# Altium footprint library PCB_LIB.PcbLib: 19 footprints (part 1 of 2)
Each footprint in its own frame and in the unit in brackets; x right, y up, seen from the top. Pads: shape width x height; smd on the part's side, far side on the other; paste and mask are expansions set on the pad; w line width, h text height; cw(c..) or ccw(c..) is an arc to the next point about the centre after c.
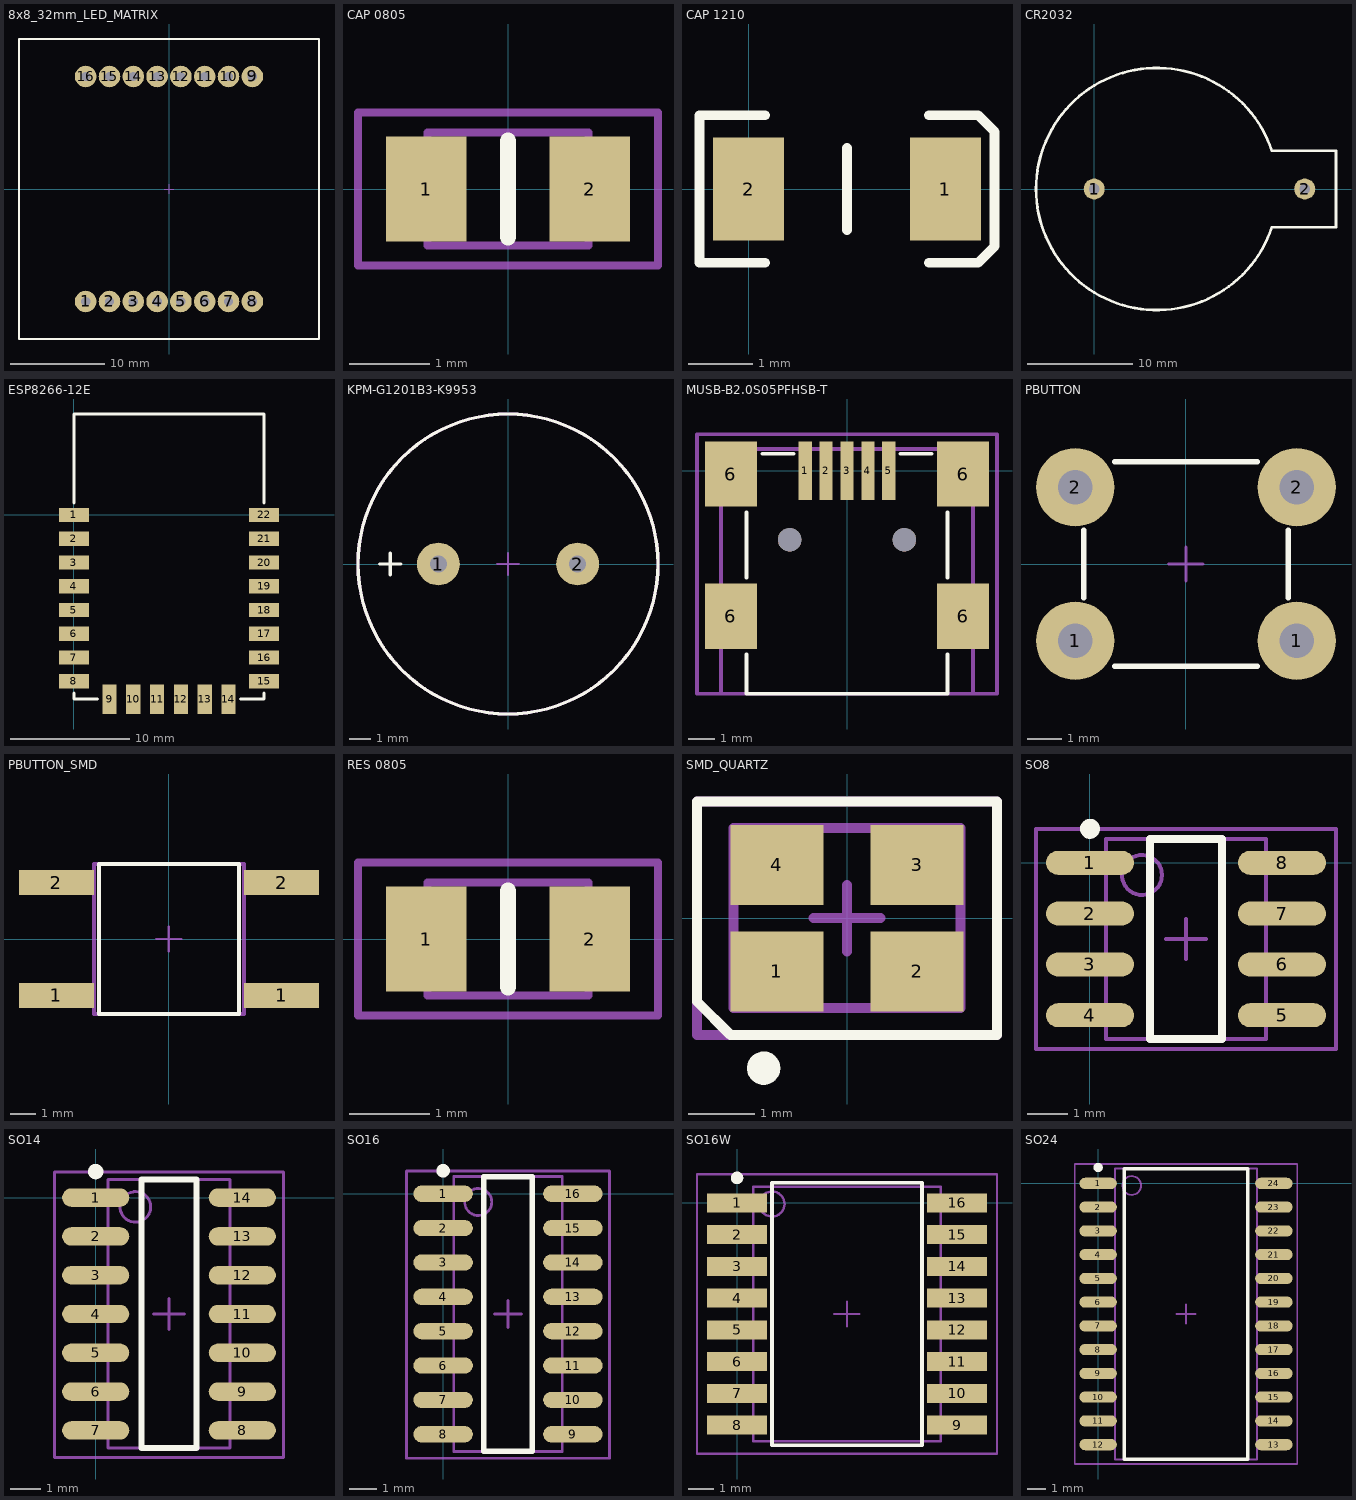
[diagram p0: the footprints below, top view; thin cyan lines are the x and y axes]

## 8x8_32mm_LED_MATRIX [mm] "32mm single color led matrix"
pads (16):
  round 2.3 hole 1: 1(-8.89,-12) 2(-6.35,-12) 3(-3.81,-12) 4(-1.27,-12) 5(1.27,-12) 6(3.81,-12) 7(6.35,-12) 8(8.89,-12) 9(8.89,12) 10(6.35,12) 11(3.81,12) 12(1.27,12) 13(-1.27,12) 14(-3.81,12) 15(-6.35,12) 16(-8.89,12)
Top Overlay:
  lines w0.254: -16,-16 -16,16 16,16 16,-16 -16,-16
Mechanical 15:
  lines w0.1: -0.5,0 0.5,0 ; 0,-0.5 0,0.5
3D body "User Library-User Library-Bicolor-LED-Matrix.step": height 8, standoff -6, extent -16,-16 16,16
3D body: height 0.25, standoff 0, extent 0,0 0,0

## CAP 0805 [mm] "0805 CAPACITOR"
pads (2):
  rect 1x1.3 smd: 1(-1.016,0) 2(1.016,0)
Top Overlay:
  lines w0.2: 0,-0.6 0,0.6
Mechanical 13:
  lines w0.1: -1,-0.7 1,-0.7 1,0.7 -1,0.7 -1,-0.7
Mechanical 15:
  lines w0.1: -1.866,-0.95 1.866,-0.95 1.866,0.95 -1.866,0.95 -1.866,-0.95
3D body "0805_Barna_C.STEP": height 0.6, standoff 0, extent -1,-0.635 1,0.615

## CAP 1210 [mm] "POLARIZED CAPACITOR"
pads (2):
  rect 1.1x1.6 smd: 1(3.048,0) 2(0,0)
Top Overlay:
  lines w0.15: 0.254,-1.143 -0.762,-1.143 -0.762,1.143 0.254,1.143 ; 1.524,-0.635 1.524,0.635 ; 2.794,-1.143 3.556,-1.143 3.81,-0.889 3.81,0.889 3.556,1.143 2.794,1.143
3D body "User Library-Tantalum Capacitor Case A.STEP": height 1.65, standoff 0, extent -0.174,-0.8 3.216,0.8

## CR2032 [mm] "Litium battery CR2032"
pads (2):
  round 2 hole 1: 1(0,0) 2(20,0)
Top Overlay:
  lines w0.254: 16.882,-3.628 cw(c5.969,0) 16.882,3.628 22.969,3.628 22.969,-3.628 16.882,-3.628
3D body "BATTERY HOLDER CR2032.step": height 6.91, standoff -4, extent -5.531,-11.5 22.969,11.5

## ESP8266-12E [mm] "Wifi module"
pads (22):
  rect 2.5x1.2 smd: 1(0,0) 2(0,-2) 3(0,-4) 4(0,-6) 5(0,-8) 6(0,-10) 7(0,-12) 8(0,-14) 15(16,-14) 16(16,-12) 17(16,-10) 18(16,-8) 19(16,-6) 20(16,-4) 21(16,-2) 22(16,0)
  rect 1.2x2.5 smd: 9(3,-15.5) 10(5,-15.5) 11(7,-15.5) 12(9,-15.5) 13(11,-15.5) 14(13,-15.5)
Top Overlay:
  lines w0.254: 0,-15 0,-15.5 2,-15.5 ; 0,1 0,8.5 16,8.5 16,1 ; 14,-15.5 16,-15.5 16,-15
3D body "ESP-12E.step": height 2.65, standoff -0.04, extent 0,-15.502 16.01,8.502

## KPM-G1201B3-K9953 [mm] "KEPO BUZZER"
pads (2):
  round 2 hole 0.8: 1(-3.25,0) 2(3.25,0)
Top Overlay:
  circle w0.15: c0,0 r7
  lines w0.15: -6,0 -5,0 ; -5.5,-0.5 -5.5,0.5
Mechanical 13:
  circle w0.15: c0,0 r7
Mechanical 15:
  lines w0.1: -0.5,0 0.5,0 ; 0,-0.5 0,0.5
3D body "Buzzer14mm.step": height 7.35, standoff -3.1, extent -7,-7 7,7

## MUSB-B2.0S05PFHSB-T [mm] "Mini USB Connector SMD"
pads (11):
  rect 0.5x2.25 smd: 1(-1.6,0) 2(-0.8,0) 3(0,0) 4(0.8,0) 5(1.6,0)
  rect 2x2.5 smd: 6(-4.45,-5.575) 6(-4.45,-0.125) 6(4.45,-5.575) 6(4.45,-0.125)
  round 0.9 hole 0.9 unplated: ""(-2.2,-2.65) ""(2.2,-2.65)
Top Overlay:
  lines w0.15: -3.85,-7.05 -3.85,-8.55 3.85,-8.55 3.85,-7.05 ; -3.85,-4.1 -3.85,-1.6 ; -3.25,0.65 -2.05,0.65 ; 2.05,0.65 3.25,0.65 ; 3.85,-4.1 3.85,-1.6
Mechanical 13:
  lines w0.15: -4.83,-8.55 -4.83,0.83 4.83,0.83 4.83,-8.55 -4.83,-8.55
Mechanical 15:
  lines w0.15: -5.75,-8.55 -5.75,1.4 5.75,1.4 5.75,-8.55 -5.75,-8.55
3D body "uj2-mabh-1-smt.stp": height 3.93, standoff -0.95, extent -4.83,-8.55 4.83,0.83

## PBUTTON [mm]
pads (4):
  round 2.3 hole 1: 1(-3.25,-2.25) 1(3.25,-2.25) 2(-3.25,2.25) 2(3.25,2.25)
Top Overlay:
  lines w0.15: -3,-1 -3,1 ; -2.1,-3 2.1,-3 ; -2.1,3 2.1,3 ; 3,-1 3,1
Mechanical 15:
  lines w0.1: -0.5,0 0.5,0 ; 0,-0.5 0,0.5
3D body "User Library-Tactile switch 6x6x5mm.step": height 5.01, standoff -3.51, extent -3.871,-3.015 3.871,3.015

## PBUTTON_SMD [mm]
pads (4):
  rect 3x1 smd: 1(-4.5,-2.25) 1(4.5,-2.25) 2(-4.5,2.25) 2(4.5,2.25)
Top Overlay:
  lines w0.15: -2.8,-3 2.8,-3 2.8,3 -2.8,3 -2.8,-3
Mechanical 13:
  lines w0.15: -3,-3 -3,3 3,3 3,-3 -3,-3
Mechanical 15:
  lines w0.1: -0.5,0 0.5,0 ; 0,-0.5 0,0.5
3D body "User Library-FSM4JSMATR - TE Connectivity - SPST 6mm Tactile Switch.step": height 4.95, standoff -0.02, extent -5,-3 5,3

## RES 0805 [mm] "0805 Resistor"
pads (2):
  rect 1x1.3 smd: 1(-1.016,0) 2(1.016,0)
Top Overlay:
  lines w0.2: 0,-0.6 0,0.6
Mechanical 13:
  lines w0.1: -1,-0.7 -1,0.7 1,0.7 1,-0.7 -1,-0.7
Mechanical 15:
  lines w0.1: -1.866,-0.95 1.866,-0.95 1.866,0.95 -1.866,0.95 -1.866,-0.95
3D body "0805_Fekete_R.STEP": height 0.6, standoff 0, extent -1,-0.635 1,0.615

## SMD_QUARTZ [mm] "SMD Quartz 2.7mm*3.4mm"
pads (4):
  rect 1.4x1.2 smd: 1(-1.05,-0.8) 2(1.05,-0.8) 3(1.05,0.8) 4(-1.05,0.8)
Top Overlay:
  circle w0.25: c-1.25,-2.25 r0.125
  lines w0.15: -2.25,-1.25 -1.75,-1.75 2.25,-1.75 2.25,1.75 -2.25,1.75 -2.25,-1.25
Mechanical 13:
  lines w0.15: -1.7,-1.35 -1.7,1.35 1.7,1.35 1.7,-1.35 -1.7,-1.35
Mechanical 15:
  lines w0.15: -0.5,0 0.5,0 ; 0,-0.5 0,0.5 ; -2.25,-1.75 2.25,-1.75 2.25,1.75 -2.25,1.75 -2.25,-1.75
3D body "SMD_QUARTZ.STEP": height 0.75, standoff 0, extent -1.7,-1.35 1.7,1.35

## SO8 [mm] "SOIC, 8-Leads, Body 4.9x3.9mm, Pitch 1.27mm, IPC Medium Density"
height 1.75
pads (8):
  oval 2.2x0.6 smd: 1(0,0) 2(0,-1.27) 3(0,-2.54) 4(0,-3.81) 5(4.8,-3.81) 6(4.8,-2.54) 7(4.8,-1.27) 8(4.8,0)
Top Overlay:
  circle w0.25: c0,0.85 r0.125
  lines w0.2: 1.5,-4.405 1.5,0.595 3.3,0.595 3.3,-4.405 1.5,-4.405
Mechanical 13:
  circle w0.1: c1.3,-0.305 r0.5
  lines w0.1: 0.4,-4.405 0.4,0.595 4.4,0.595 4.4,-4.405 0.4,-4.405
Mechanical 15:
  lines w0.1: 1.9,-1.905 2.9,-1.905 ; 2.4,-2.405 2.4,-1.405 ; -1.35,-4.655 -1.35,0.845 6.15,0.845 6.15,-4.655 -1.35,-4.655
3D body "SO-8.step": height 1.7, standoff 0, extent -0.6,-4.35 5.4,0.55

## SO14 [mm] "SOIC, 8-Leads, Body 4.9x3.9mm, Pitch 1.27mm, IPC Medium Density"
height 1.75
pads (14):
  oval 2.2x0.6 smd: 1(0,0) 2(0,-1.27) 3(0,-2.54) 4(0,-3.81) 5(0,-5.08) 6(0,-6.35) 7(0,-7.62) 8(4.8,-7.62) 9(4.8,-6.35) 10(4.8,-5.08) 11(4.8,-3.81) 12(4.8,-2.54) 13(4.8,-1.27) 14(4.8,0)
Top Overlay:
  circle w0.25: c0,0.85 r0.125
  lines w0.2: 1.5,-8.2 1.5,0.595 3.3,0.595 3.3,-8.2 1.5,-8.2
Mechanical 13:
  circle w0.1: c1.3,-0.305 r0.5
  lines w0.1: 0.4,-8.2 4.4,-8.2 4.4,0.595 0.4,0.595 0.4,-8.2
Mechanical 15:
  lines w0.1: 1.9,-3.81 2.9,-3.81 ; 2.4,-4.31 2.4,-3.31 ; -1.35,-8.5 6.15,-8.5 6.15,0.845 -1.35,0.845 -1.35,-8.5
3D body "SO_14.STEP": height 1.75, standoff -0.01, extent -0.598,-8.191 5.601,0.559

## SO16 [mm]
pads (16):
  oval 2.2x0.6 smd: 1(0,0) 2(0,-1.27) 3(0,-2.54) 4(0,-3.81) 5(0,-5.08) 6(0,-6.35) 7(0,-7.62) 8(0,-8.89) 9(4.8,-8.89) 10(4.8,-7.62) 11(4.8,-6.35) 12(4.8,-5.08) 13(4.8,-3.81) 14(4.8,-2.54) 15(4.8,-1.27) 16(4.8,0)
Top Overlay:
  circle w0.25: c0,0.85 r0.125
  lines w0.2: 1.5,-9.525 3.3,-9.525 3.3,0.635 1.5,0.635 1.5,-9.525
Mechanical 13:
  circle w0.1: c1.3,-0.305 r0.5
  lines w0.1: 0.4,-9.525 0.4,0.635 4.4,0.635 4.4,-9.525 0.4,-9.525
Mechanical 15:
  lines w0.1: 1.9,-4.445 2.9,-4.445 ; 2.4,-4.945 2.4,-3.945 ; -1.35,-9.779 -1.35,0.845 6.15,0.845 6.15,-9.779 -1.35,-9.779
3D body "so16-1.step": height 1.75, standoff -0.02, extent -0.668,-9.43 5.469,0.54

## SO16W [mm]
pads (16):
  rect 2.4x0.75 smd: 1(0,0) 2(0,-1.27) 3(0,-2.54) 4(0,-3.81) 5(0,-5.08) 6(0,-6.35) 7(0,-7.62) 8(0,-8.89) 9(8.8,-8.89) 10(8.8,-7.62) 11(8.8,-6.35) 12(8.8,-5.08) 13(8.8,-3.81) 14(8.8,-2.54) 15(8.8,-1.27) 16(8.8,0)
Top Overlay:
  circle w0.25: c0,1 r0.125
  lines w0.15: 1.4,-9.695 1.4,0.805 7.4,0.805 7.4,-9.695 1.4,-9.695
Mechanical 13:
  circle w0.1: c1.4,-0.045 r0.5
  lines w0.1: 0.65,-9.545 0.65,0.655 8.15,0.655 8.15,-9.545 0.65,-9.545
Mechanical 15:
  lines w0.1: 3.9,-4.445 4.9,-4.445 ; 4.4,-4.945 4.4,-3.945 ; -1.6,-10.045 -1.6,1.155 10.4,1.155 10.4,-10.045 -1.6,-10.045
3D body "so16w.step": height 3.5, standoff 0, extent -0.75,-9.545 9.55,0.655

## SO24 [mm]
pads (24):
  oval 2x0.6 smd: 1(0,0) 2(0,-1.27) 3(0,-2.54) 4(0,-3.81) 5(0,-5.08) 6(0,-6.35) 7(0,-7.62) 8(0,-8.89) 9(0,-10.16) 10(0,-11.43) 11(0,-12.7) 12(0,-13.97) 13(9.4,-13.97) 14(9.4,-12.7) 15(9.4,-11.43) 16(9.4,-10.16) 17(9.4,-8.89) 18(9.4,-7.62) 19(9.4,-6.35) 20(9.4,-5.08) 21(9.4,-3.81) 22(9.4,-2.54) 23(9.4,-1.27) 24(9.4,0)
Top Overlay:
  circle w0.25: c0,0.85 r0.125
  lines w0.2: 1.4,-14.755 1.4,0.785 8,0.785 8,-14.755 1.4,-14.755
Mechanical 13:
  circle w0.1: c1.8,-0.115 r0.5
  lines w0.1: 0.9,-14.755 0.9,0.785 8.5,0.785 8.5,-14.755 0.9,-14.755
Mechanical 15:
  lines w0.1: 4.2,-6.985 5.2,-6.985 ; 4.7,-7.485 4.7,-6.485 ; -1.25,-15.005 -1.25,1.035 10.65,1.035 10.65,-15.005 -1.25,-15.005
3D body "SOIC-24-300.STEP": height 2.58, standoff -0.02, extent -0.6,-14.785 10,0.815